# EAGLE library part 128X160_TFT (library LW_DUB)
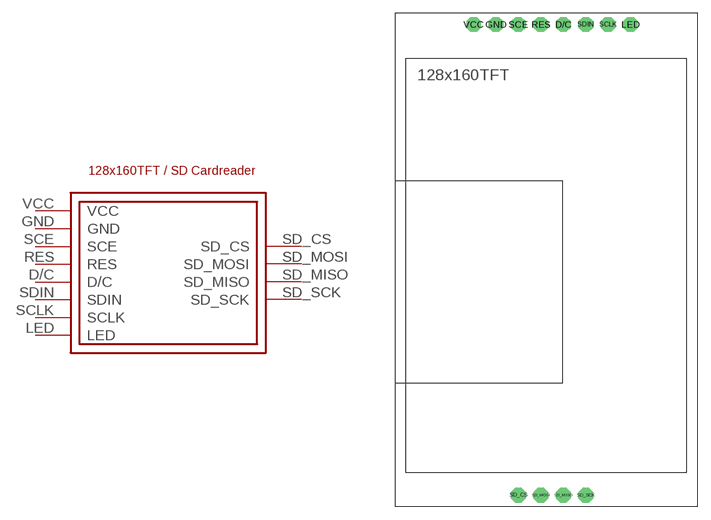
[diagram p17: symbol with the pads of 128X160_TFT; footprint 128X160_TFT]

Designator prefix -

## 128X160_TFT  [128X160_TFT]
D/C  D/C
GND  GND
LED  LED
RES  RES
SCE  SCE
SCLK  SCLK
SD_CS  SD_CS
SD_MISO  SD_MISO
SD_MOSI  SD_MOSI
SD_SCK  SD_SCK
SDIN  SDIN
VCC  VCC

## Footprint 128X160_TFT (pad centres in mm)
drill 0.8 pad 1.676 octagon: D/C 0.021,-0.011; GND -7.599,-0.011; LED 7.641,-0.011; RES -2.519,-0.011; SCE -5.059,-0.011; SCLK 5.101,-0.011; SD_CS -5.059,-53.351; SD_MISO 0.021,-53.351; SD_MOSI -2.519,-53.351; SD_SCK 2.561,-53.351; SDIN 2.561,-0.011; VCC -10.139,-0.011